# Altium footprint library 5037630491.PcbLib: 1 footprints
Each footprint in its own frame and in the unit in brackets; x right, y up, seen from the top. Pads: shape width x height; smd on the part's side, far side on the other; paste and mask are expansions set on the pad; w line width, h text height; cw(c..) or ccw(c..) is an arc to the next point about the centre after c.
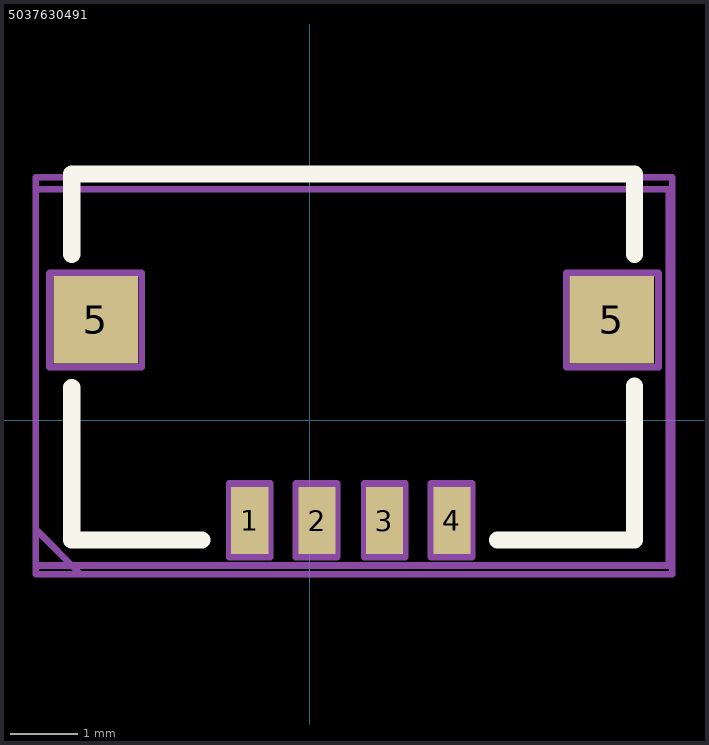
[diagram p0: the footprint, top view; thin cyan lines are the x and y axes]

## 5037630491 [mm]
pads (6):
  rect 0.55x1 smd: 1(-0.887,-1.49) 2(0.113,-1.49) 3(1.113,-1.49) 4(2.113,-1.49)
  rect 1.26x1.3 smd: 5(-3.175,1.49) 5(4.488,1.49)
Top Overlay:
  lines w0.254: -3.531,0.483 -3.531,-1.778 -1.6,-1.778 ; -3.531,2.464 -3.531,3.658 ; -2.616,3.658 -3.531,3.658 ; 2.794,-1.778 4.826,-1.778 4.826,0.508 ; 4.826,2.464 4.826,3.658 -3.531,3.658
Mechanical 3:
  lines w0.1: -4.064,-1.626 -3.404,-2.286 5.385,-2.286 5.385,3.607 -4.064,3.607 -4.064,-1.626
Mechanical 5:
  lines w0.1: -4.064,-2.286 5.385,-2.286 5.385,3.607 -4.064,3.607 -4.064,-2.286 ; -3.861,0.787 -2.489,0.787 -2.489,2.184 -3.861,2.184 -3.861,0.787 ; -1.194,-2.032 -0.584,-2.032 -0.584,-0.94 -1.194,-0.94 -1.194,-2.032 ; -0.203,-2.032 -0.203,-0.94 0.406,-0.94 0.406,-2.032 -0.203,-2.032 ; 0.813,-2.032 0.813,-0.94 1.422,-0.94 1.422,-2.032 0.813,-2.032 ; 1.803,-2.032 1.803,-0.94 2.413,-0.94 2.413,-2.032 1.803,-2.032 ; 3.81,0.787 3.81,2.184 5.182,2.184 5.182,0.787 3.81,0.787
Mechanical 7:
  lines w0.1: -4.064,-2.159 -4.064,3.429 5.334,3.429 5.334,-2.159 -4.064,-2.159
Mechanical 9:
  text "'.Designator'" at -4.953,-0.381 h1
3D body "5037630491.stp": height 1.47, standoff -0.03, extent -3.647,-1.905 4.953,3.285
3D body: height 1, standoff 0, extent -4.064,-2.159 5.334,3.429